# Altium footprint library SOP.PcbLib: 20 footprints (part 2 of 2)
Each footprint in its own frame and in the unit in brackets; x right, y up, seen from the top. Pads: shape width x height; smd on the part's side, far side on the other; paste and mask are expansions set on the pad; w line width, h text height; cw(c..) or ccw(c..) is an arc to the next point about the centre after c.
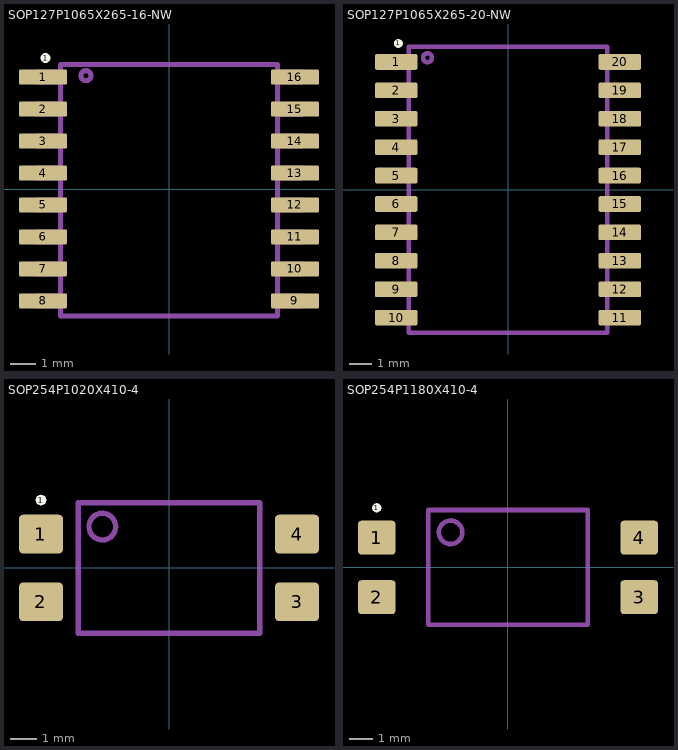
[diagram p1: the footprints below, top view; thin cyan lines are the x and y axes]

## SOP127P1065X265-16-NW [mm] "JEDEC MS-013-AC, SOIC16_W"
height 1.55
pads (17):
  rrect25% 1.91x0.61 smd: 1(-5,4.445) 2(-5,3.175) 3(-5,1.905) 4(-5,0.635) 5(-5,-0.635) 6(-5,-1.905) 7(-5,-3.175) 8(-5,-4.445) 9(5,-4.445) 10(5,-3.175) 11(5,-1.905) 12(5,-0.635) 13(5,0.635) 14(5,1.905) 15(5,3.175) 16(5,4.445)
  round 0.4 on Top Overlay: 1(-4.9,5.2)
Top Assembly:
  circle w0.2: c-3.3,4.5 r0.2
  lines w0.2: -4.3,-4.645 -5.25,-4.645 -5.25,-4.245 -4.3,-4.245 ; -4.3,-3.375 -5.25,-3.375 -5.25,-2.975 -4.3,-2.975 ; -4.3,-2.105 -5.25,-2.105 -5.25,-1.705 -4.3,-1.705 ; -4.3,-0.835 -5.25,-0.835 -5.25,-0.435 -4.3,-0.435 ; -4.3,0.435 -5.25,0.435 -5.25,0.835 -4.3,0.835 ; -4.3,1.705 -5.25,1.705 -5.25,2.105 -4.3,2.105 ; -4.3,2.975 -5.25,2.975 -5.25,3.375 -4.3,3.375 ; -4.3,4.245 -5.25,4.245 -5.25,4.645 -4.3,4.645 ; 4.3,-4.645 5.25,-4.645 5.25,-4.245 4.3,-4.245 ; 4.3,-3.375 5.25,-3.375 5.25,-2.975 4.3,-2.975 ; 4.3,-2.105 5.25,-2.105 5.25,-1.705 4.3,-1.705 ; 4.3,-0.835 5.25,-0.835 5.25,-0.435 4.3,-0.435 ; 4.3,0.435 5.25,0.435 5.25,0.835 4.3,0.835 ; 4.3,1.705 5.25,1.705 5.25,2.105 4.3,2.105 ; 4.3,4.245 5.25,4.245 5.25,4.645 4.3,4.645 ; 4.322,2.962 5.272,2.962 5.272,3.362 4.322,3.362 ; -4.3,-5.04 4.3,-5.04 4.3,4.94 -4.3,4.94 -4.3,-5.04
3D body "SOP127P1065X2650-16-SOIC_W-16.stp": height 2.65, standoff -0.01, extent -5.325,-5.16 5.325,5.16

## SOP127P1065X265-20-NW [mm] "JEDEC MS-013-AC, SOIC20_W"
height 2.35
pads (21):
  rrect25% 1.91x0.7 smd: 1(-5,5.715) 2(-5,4.445) 3(-5,3.175) 4(-5,1.905) 5(-5,0.635) 6(-5,-0.635) 7(-5,-1.905) 8(-5,-3.175) 9(-5,-4.445) 10(-5,-5.715) 11(5,-5.715) 12(5,-4.445) 13(5,-3.175) 14(5,-1.905) 15(5,-0.635) 16(5,0.635) 17(5,1.905) 18(5,3.175) 19(5,4.445) 20(5,5.715)
  round 0.4 on Top Overlay: 1(-4.9,6.54)
Top Assembly:
  circle w0.2: c-3.6,5.9 r0.2
  lines w0.2: -4.44,-5.915 -5.39,-5.915 -5.39,-5.515 -4.44,-5.515 ; -4.44,-4.645 -5.39,-4.645 -5.39,-4.245 -4.44,-4.245 ; -4.44,-3.375 -5.39,-3.375 -5.39,-2.975 -4.44,-2.975 ; -4.44,-2.105 -5.39,-2.105 -5.39,-1.705 -4.44,-1.705 ; -4.44,-0.835 -5.39,-0.835 -5.39,-0.435 -4.44,-0.435 ; -4.44,0.435 -5.39,0.435 -5.39,0.835 -4.44,0.835 ; -4.44,1.705 -5.39,1.705 -5.39,2.105 -4.44,2.105 ; -4.44,2.975 -5.39,2.975 -5.39,3.375 -4.44,3.375 ; -4.44,4.245 -5.39,4.245 -5.39,4.645 -4.44,4.645 ; -4.44,5.515 -5.39,5.515 -5.39,5.915 -4.44,5.915 ; 4.44,-5.915 5.39,-5.915 5.39,-5.515 4.44,-5.515 ; 4.44,-4.645 5.39,-4.645 5.39,-4.245 4.44,-4.245 ; 4.44,-3.375 5.39,-3.375 5.39,-2.975 4.44,-2.975 ; 4.44,-2.105 5.39,-2.105 5.39,-1.705 4.44,-1.705 ; 4.44,-0.835 5.39,-0.835 5.39,-0.435 4.44,-0.435 ; 4.44,0.435 5.39,0.435 5.39,0.835 4.44,0.835 ; 4.44,1.705 5.39,1.705 5.39,2.105 4.44,2.105 ; 4.44,2.975 5.39,2.975 5.39,3.375 4.44,3.375 ; 4.44,4.245 5.39,4.245 5.39,4.645 4.44,4.645 ; 4.44,5.515 5.39,5.515 5.39,5.915 4.44,5.915 ; -4.44,-6.4 -4.44,6.4 4.44,6.4 4.44,-6.4 -4.44,-6.4
3D body "SOP127P1065X2650-20-SOIC_W-20.stp": height 2.65, standoff -0.01, extent -5.325,-6.43 5.325,6.43

## SOP254P1020X410-4 [mm] "SOP, 4-Leads, Body 4.60x6.50mm, Pitch 2.54mm, IPC Medium Density"
height 4.1
pads (5):
  rrect20% 1.65x1.45 smd: 1(-4.8,1.27) 2(-4.8,-1.27) 3(4.8,-1.27) 4(4.8,1.27)
  round 0.4 on Top Overlay: 1(-4.8,2.545)
Top Assembly:
  circle w0.2: c-2.5,1.55 r0.5
  lines w0.2: -3.4,-2.45 3.4,-2.45 3.4,2.45 -3.4,2.45 -3.4,-2.45
3D body "SOP254P1020X410-4.step": height 4.1, standoff 0, extent -5.08,-2.45 5.08,2.45

## SOP254P1180X410-4 [mm] "SOP, 4-Leads, Body 4.60x6.50mm, Pitch 2.54mm, IPC Medium Density"
height 4.1
pads (5):
  rrect20% 1.6x1.45 smd: 1(-5.6,1.27) 2(-5.6,-1.27) 3(5.6,-1.27) 4(5.6,1.27)
  round 0.4 on Top Overlay: 1(-5.6,2.545)
Top Assembly:
  circle w0.2: c-2.45,1.5 r0.5
  lines w0.2: -3.4,-2.45 -3.4,2.45 3.4,2.45 3.4,-2.45 -3.4,-2.45
3D body "SOP254P1180X410-4.step": height 4.1, standoff 0, extent -5.9,-2.45 5.9,2.45